# Altium footprint library BAT_BU2032-1.PcbLib: 1 footprints
Each footprint in its own frame and in the unit in brackets; x right, y up, seen from the top. Pads: shape width x height; smd on the part's side, far side on the other; paste and mask are expansions set on the pad; w line width, h text height; cw(c..) or ccw(c..) is an arc to the next point about the centre after c.
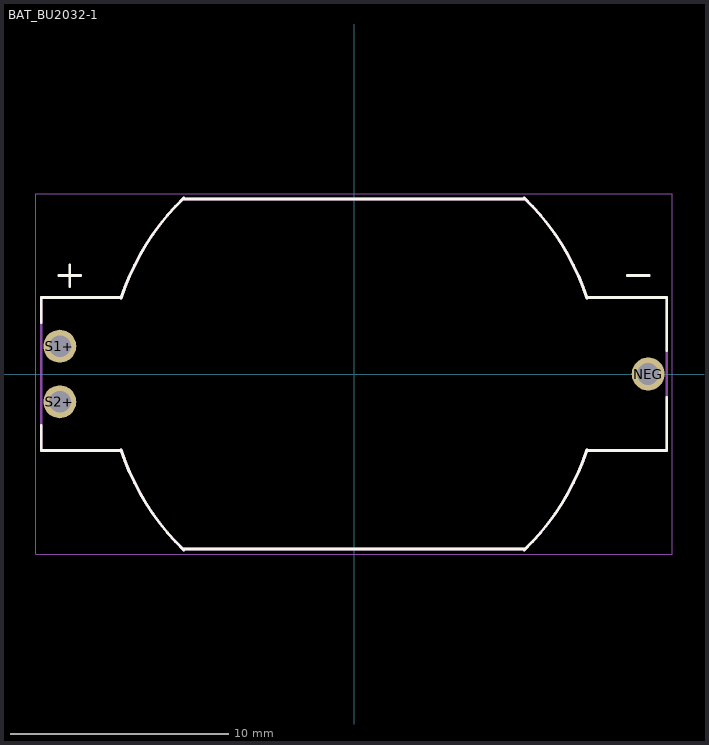
[diagram p0: the footprint, top view; thin cyan lines are the x and y axes]

## BAT_BU2032-1 [mm]
pads (3):
  round 1.508 hole 1: NEG(13.45,0) S1+(-13.45,1.27) S2+(-13.45,-1.27)
Top Overlay:
  lines w0.127: -14.3,-2.345 -14.3,-3.5 -10.64,-3.5 ; -14.3,2.345 -14.3,3.5 -10.64,3.5 ; -13.5,4.5 -12.5,4.5 ; -13,4 -13,5 ; -10.653,-3.462 ccw(c0.001,0) -7.78,-8.058 ; -10.653,3.461 cw(c0.002,-0.001) -7.78,8.058 ; -7.84,-8 7.84,-8 ; -7.84,8 7.84,8 ; 7.78,-8.058 ccw(c-0.002,0.001) 10.653,-3.461 ; 7.78,8.058 cw(c-0.001,0) 10.653,3.462 ; 10.64,-3.5 14.3,-3.5 14.3,-1.07 ; 10.64,3.5 14.3,3.5 14.3,1.07 ; 12.5,4.5 13.5,4.5
Mechanical 13:
  lines w0.127: -10.653,-3.462 ccw(c0.001,0) -7.78,-8.058 ; -10.653,3.461 cw(c0.002,-0.001) -7.78,8.058 ; -10.64,-3.5 -14.3,-3.5 -14.3,3.5 -10.64,3.5 ; -7.84,-8 7.84,-8 ; -7.84,8 7.84,8 ; 7.78,-8.058 ccw(c-0.002,0.001) 10.653,-3.461 ; 7.78,8.058 cw(c-0.001,0) 10.653,3.462 ; 10.64,-3.5 14.3,-3.5 14.3,3.5 10.64,3.5
Mechanical 15:
  lines w0.05: -14.55,-8.25 -14.55,8.25 14.55,8.25 14.55,-8.25 -14.55,-8.25
3D body "BU2032-1-HD-G--3DModel-STEP-1.STEP": height 5.3, standoff -3.85, extent -14.427,-10 14.173,10